# EAGLE library part LTC6957HMS-2PBF (library ltc6957-2)
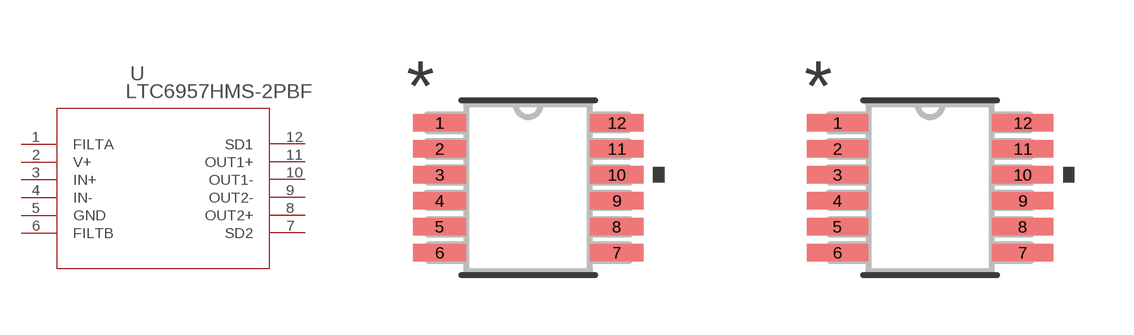
[diagram p0: symbol with the pads of MSOP12_MS_ADI; footprints MSOP12_MS_ADI, MSOP12_MS_ADI-M]

Designator prefix U

## LTC6957HMS-2PBF (COPYRIGHT: Copyright (C) 2023 Ultra Librarian. All rights reserved.; MANUFACTURER_PART_NUMBER: LTC6957HMS-2#PBF; MFR_NAME: Analog Devices Inc)  [MSOP12_MS_ADI]
1  FILTA  in
2  V+  pwr
3  IN+  in
4  IN-  in
5  GND  pas
6  FILTB  in
7  SD2  in
8  OUT2+  out
9  OUT2-  out
10  OUT1-  out
11  OUT1+  out
12  SD1  in

## LTC6957HMS-2PBFMSOP12_MS_ADI-M (COPYRIGHT: Copyright (C) 2023 Ultra Librarian. All rights reserved.; MANUFACTURER_PART_NUMBER: LTC6957HMS-2#PBF; MFR_NAME: Analog Devices Inc)  [MSOP12_MS_ADI-M]
Pads as for MSOP12_MS_ADI

## LTC6957HMS-2PBFMSOP12_MS_ADI-L (COPYRIGHT: Copyright (C) 2023 Ultra Librarian. All rights reserved.; MANUFACTURER_PART_NUMBER: LTC6957HMS-2#PBF; MFR_NAME: Analog Devices Inc)  [MSOP12_MS_ADI-L]
Pads as for MSOP12_MS_ADI

## Footprint MSOP12_MS_ADI (pad centres in mm)
smd 1.333 x 0.432: 1 -2.216,1.626; 2 -2.216,0.975; 3 -2.216,0.325; 4 -2.216,-0.325; 5 -2.216,-0.975; 6 -2.216,-1.626; 7 2.216,-1.626; 8 2.216,-0.975; 9 2.216,-0.325; 10 2.216,0.325; 11 2.216,0.975; 12 2.216,1.626

## Footprint MSOP12_MS_ADI-M (pad centres in mm)
smd 1.537 x 0.432: 1 -2.318,1.626; 2 -2.318,0.975; 3 -2.318,0.325; 4 -2.318,-0.325; 5 -2.318,-0.975; 6 -2.318,-1.626; 7 2.318,-1.626; 8 2.318,-0.975; 9 2.318,-0.325; 10 2.318,0.325; 11 2.318,0.975; 12 2.318,1.626

## Footprint MSOP12_MS_ADI-L (pad centres in mm)
smd 1.092 x 0.381: 1 -2.134,1.626; 2 -2.134,0.975; 3 -2.134,0.325; 4 -2.134,-0.325; 5 -2.134,-0.975; 6 -2.134,-1.626; 7 2.134,-1.626; 8 2.134,-0.975; 9 2.134,-0.325; 10 2.134,0.325; 11 2.134,0.975; 12 2.134,1.626